# EAGLE library part GD25Q16 (library angrypig7-IC)
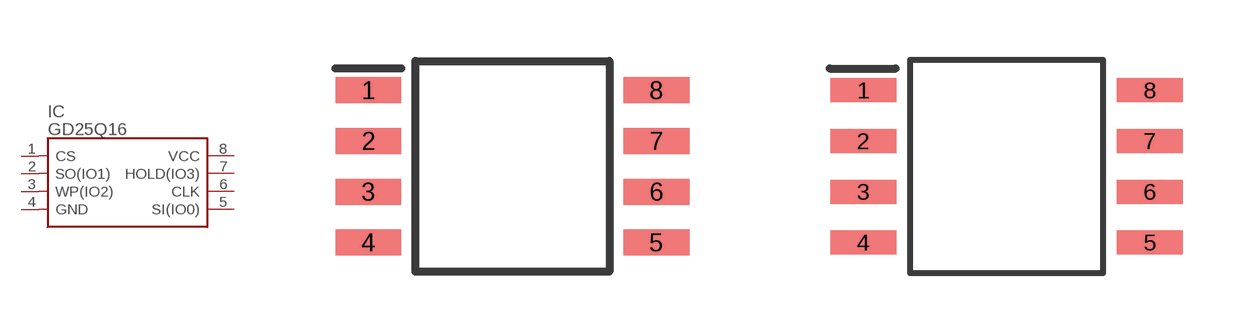
[diagram p16: symbol with the pads of SOIC-8_208MIL; footprints SOIC-8_208MIL, SOP-8_208MIL]

Designator prefix IC

## GD25Q16CSIG (LCSC: C79074)  [SOIC-8_208MIL]
1  CS
2  SO(IO1)
3  WP(IO2)
4  GND
5  SI(IO0)
6  CLK
7  HOLD(IO3)
8  VCC

## GD25Q16ESIG  [SOP-8_208MIL]
Pads as for SOIC-8_208MIL

## Footprint SOIC-8_208MIL (pad centres in mm)
smd 1.65 x 0.65: 1 -3.6,1.905; 2 -3.6,0.635; 3 -3.6,-0.635; 4 -3.6,-1.905; 5 3.6,-1.905; 6 3.6,-0.635; 7 3.6,0.635; 8 3.6,1.905

## Footprint SOP-8_208MIL (pad centres in mm)
8-SOIC, 1.27 mm pitch, 7.90 mm span, 5.23 X 5.28 X 2.16 mm body 8-pin SOIC package with 1.27 mm pitch, 7.90 mm span with body size 5.23 X 5.28 X 2.16 mm
smd 1.647 x 0.599: 1 -3.584,1.905; 2 -3.584,0.635; 3 -3.584,-0.635; 4 -3.584,-1.905; 5 3.584,-1.905; 6 3.584,-0.635; 7 3.584,0.635; 8 3.584,1.905